# Altium schematic symbol library Self_Locking_Switch.SchLib: 1 symbol
Pins are listed as number, name and electrical type; pins without a type are passive.

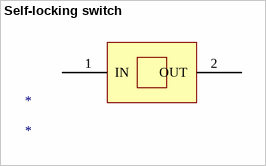
[diagram p0: symbol Self-locking switch]

## Self-locking switch
designator *
footprint Self-locking switch
pins: 1 IN, 2 OUT